# EAGLE library part G6E-134P-US_DC5 (library G6E-134P-US_DC5)
Low Signal Relays - PCB Relay Source: Datasheet <https://componentsearchengine.com/Datasheets/1/G6E-134P-US DC5.pdf>
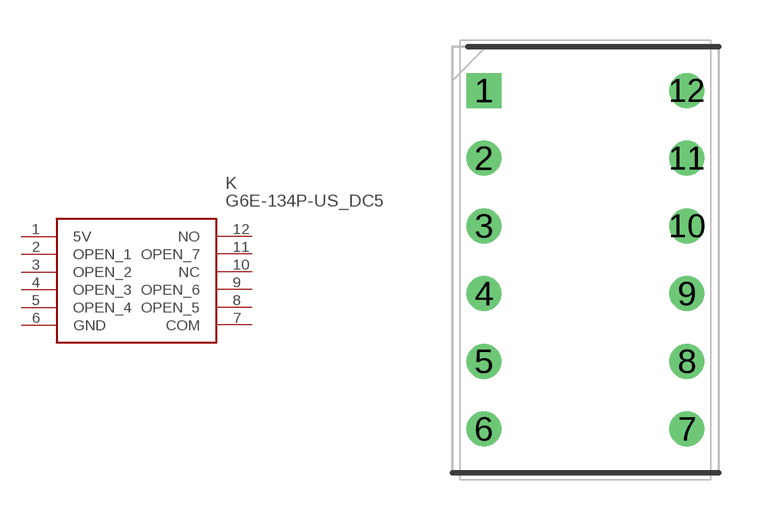
[diagram p0: symbol with the pads of DIP762W60P254L1595H800Q12N; footprint DIP762W60P254L1595H800Q12N]

Designator prefix K

## G6E-134P-US_DC5 (ARROW_PART_NUMBER: G6E-134P-US DC5; DESCRIPTION: Low Signal Relays - PCB Relay; HEIGHT: 8mm; MANUFACTURER_NAME: Omron Electronics; MANUFACTURER_PART_NUMBER: G6E-134P-US DC5)  [DIP762W60P254L1595H800Q12N]
1  5V
2  OPEN_1
3  OPEN_2
4  OPEN_3
5  OPEN_4
6  GND  pwr
7  COM
8  OPEN_5
9  OPEN_6
10  NC  nc
11  OPEN_7
12  NO

## Footprint DIP762W60P254L1595H800Q12N (pad centres in mm)
G6E-134P-US
drill 0.8 pad 1.2 square: 1 -3.81,6.35
drill 0.8 pad 1.2: 2 -3.81,3.81; 3 -3.81,1.27; 4 -3.81,-1.27; 5 -3.81,-3.81; 6 -3.81,-6.35; 7 3.81,-6.35; 8 3.81,-3.81; 9 3.81,-1.27; 10 3.81,1.27; 11 3.81,3.81; 12 3.81,6.35